# EAGLE library part IRF7309 (library ECE380)
IRF7309 PMOS and NMOS
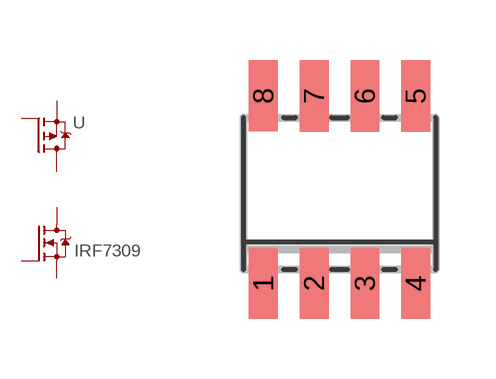
[diagram p2: symbol with the pads of SO-8; footprint SO-8]

Designator prefix -

## IRF7309  [SO-8]
1  N-S  pas
2  N-G  pas
3  P-S  pas
4  P-G  pas
5  P-D  pas
6  P-D  pas
7  N-D  pas
8  N-D  pas

## Footprint SO-8 (pad centres in mm)
SO-8 Package
smd 0.72 x 1.78: 1 -1.905,-2.34; 2 -0.635,-2.34; 3 0.635,-2.34; 4 1.905,-2.34; 5 1.905,2.34; 6 0.635,2.34; 7 -0.635,2.34; 8 -1.905,2.35